# Altium footprint library B3U3000PB.PcbLib: 1 footprints
Each footprint in its own frame and in the unit in brackets; x right, y up, seen from the top. Pads: shape width x height; smd on the part's side, far side on the other; paste and mask are expansions set on the pad; w line width, h text height; cw(c..) or ccw(c..) is an arc to the next point about the centre after c.
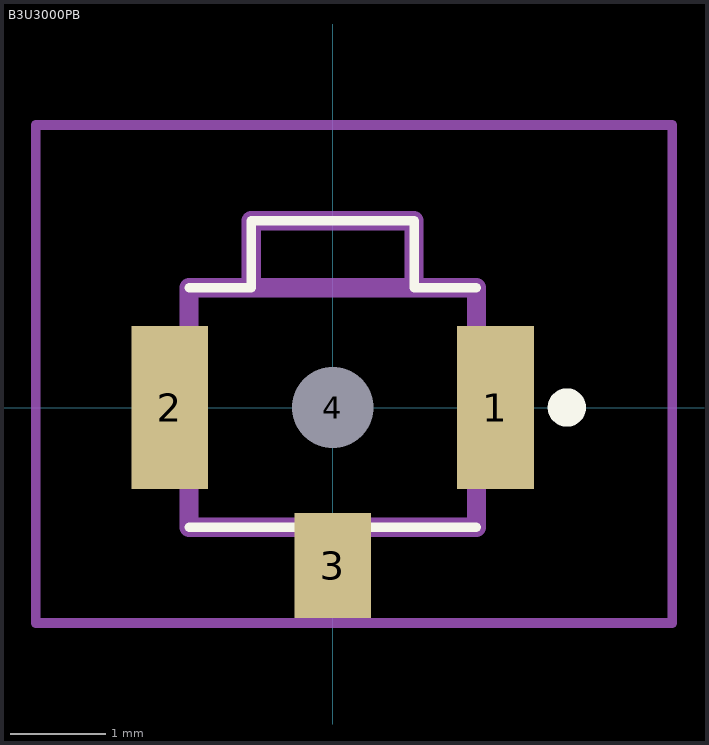
[diagram p0: the footprint, top view; thin cyan lines are the x and y axes]

## B3U3000PB [mm]
pads (4):
  rect 0.8x1.7 smd: 1(1.7,0) 2(-1.7,0)
  rect 0.8x1.1 / inner round 0 / far side round 0 all layers, no hole: 3(0,-1.65)
  round 0.425 hole 0.85 unplated: 4(0,0)
Top Overlay:
  lines w0.1: -1.5,-1.25 1.5,-1.25 ; -1.5,1.25 -0.85,1.25 -0.85,1.95 0.85,1.95 0.85,1.25 1.5,1.25
  lines w0.2: 2.345,0 cw(c2.445,0) 2.545,0 cw(c2.445,0) 2.345,0
Mechanical 15:
  lines w0.2: -0.85,1.25 -0.85,1.95 0.85,1.95 0.85,1.25 ; -1.5,-1.25 -1.5,1.25 1.5,1.25 1.5,-1.25 -1.5,-1.25
Mechanical 20:
  lines w0.1: -3.1,-2.25 -3.1,2.95 3.545,2.95 3.545,-2.25 -3.1,-2.25
3D body "B3U-3000P-B.stp": height 1.2, standoff -0.5, extent -1.968,-1.295 2.032,1.905